# EAGLE library part THAT1250 (library THAT1250)
THAT 1250 Balanced Line Receiver (DIP) Datasheet: http://www.thatcorp.com/datashts/THAT_1250-Series_Datasheet.pdf
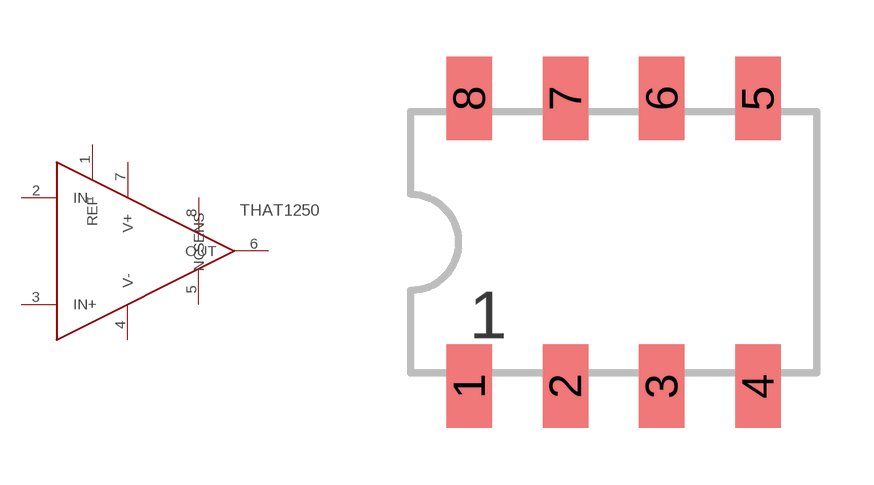
[diagram p0: symbol with the pads of THAT1250; footprint THAT1250]

Designator prefix -

## THAT1250  [THAT1250]
1  REF
2  IN-  in
3  IN+  in
4  V-  pwr
5  SENS
6  OUT  out
7  V+  pwr
8  NC

## Footprint THAT1250 (pad centres in mm)
THAT 1250 Balanced Line Receiver (DIP) Datasheet: http://www.thatcorp.com/datashts/THAT_1250-Series_Datasheet.pdf
smd 1.2 x 2.2: 1 -3.81,-3.8; 2 -1.27,-3.8; 3 1.27,-3.8; 4 3.81,-3.8; 5 3.81,3.8; 6 1.27,3.8; 7 -1.27,3.8; 8 -3.81,3.8